# Altium schematic symbol library LM5022.Schlib: 1 symbol
Pins are listed as number, name and electrical type; pins without a type are passive.

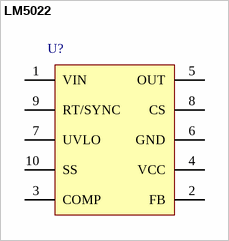
[diagram p0: symbol LM5022]

## LM5022
designator U?  (value not drawn)
Switching Boost Controller, LM5022
pins: 1 VIN, 2 FB, 3 COMP, 4 VCC, 5 OUT, 6 GND, 7 UVLO, 8 CS, 9 RT/SYNC, 10 SS